# Altium footprint library AT224.PcbLib: 2 footprints
Each footprint in its own frame and in the unit in brackets; x right, y up, seen from the top. Pads: shape width x height; smd on the part's side, far side on the other; paste and mask are expansions set on the pad; w line width, h text height; cw(c..) or ccw(c..) is an arc to the next point about the centre after c.
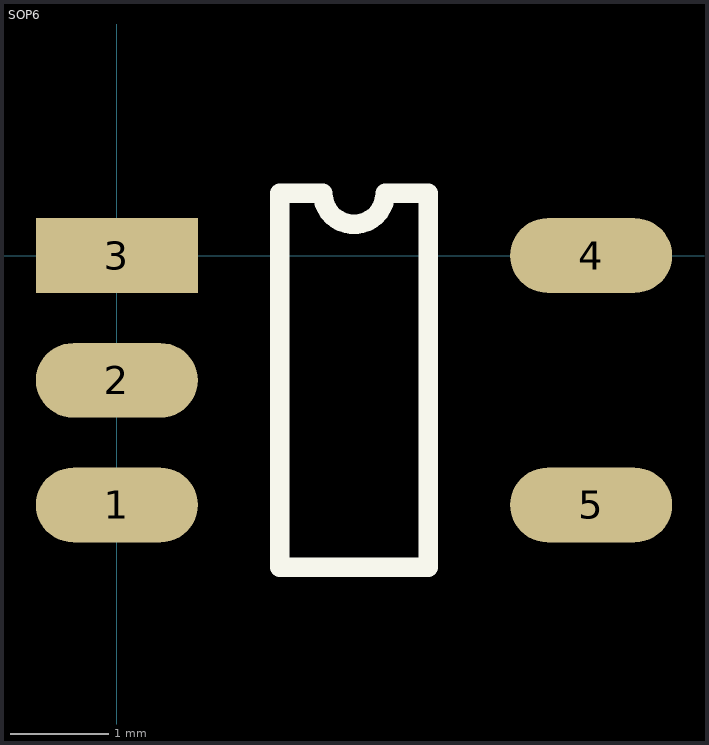
[diagram p0: the footprints below, top view; thin cyan lines are the x and y axes]

## PCBComponent_1 [mm]

## SOP6 [mm]
pads (5):
  oval 1.65x0.76 smd: 1(0,-2.54) 2(0,-1.27) 4(4.83,0) 5(4.83,-2.54)
  rect 1.65x0.76 smd: 3(0,0)
Top Overlay:
  lines w0.2: 1.66,-3.175 1.66,0.635 2.097,0.635 ccw(c2.415,0.635) 2.732,0.635 3.17,0.635 3.17,-3.175 1.66,-3.175